# Altium footprint library SYSPCB_03.PCBLIB: 98 footprints (part 6 of 7)
Each footprint in its own frame and in the unit in brackets; x right, y up, seen from the top. Pads: shape width x height; smd on the part's side, far side on the other; paste and mask are expansions set on the pad; w line width, h text height; cw(c..) or ccw(c..) is an arc to the next point about the centre after c.
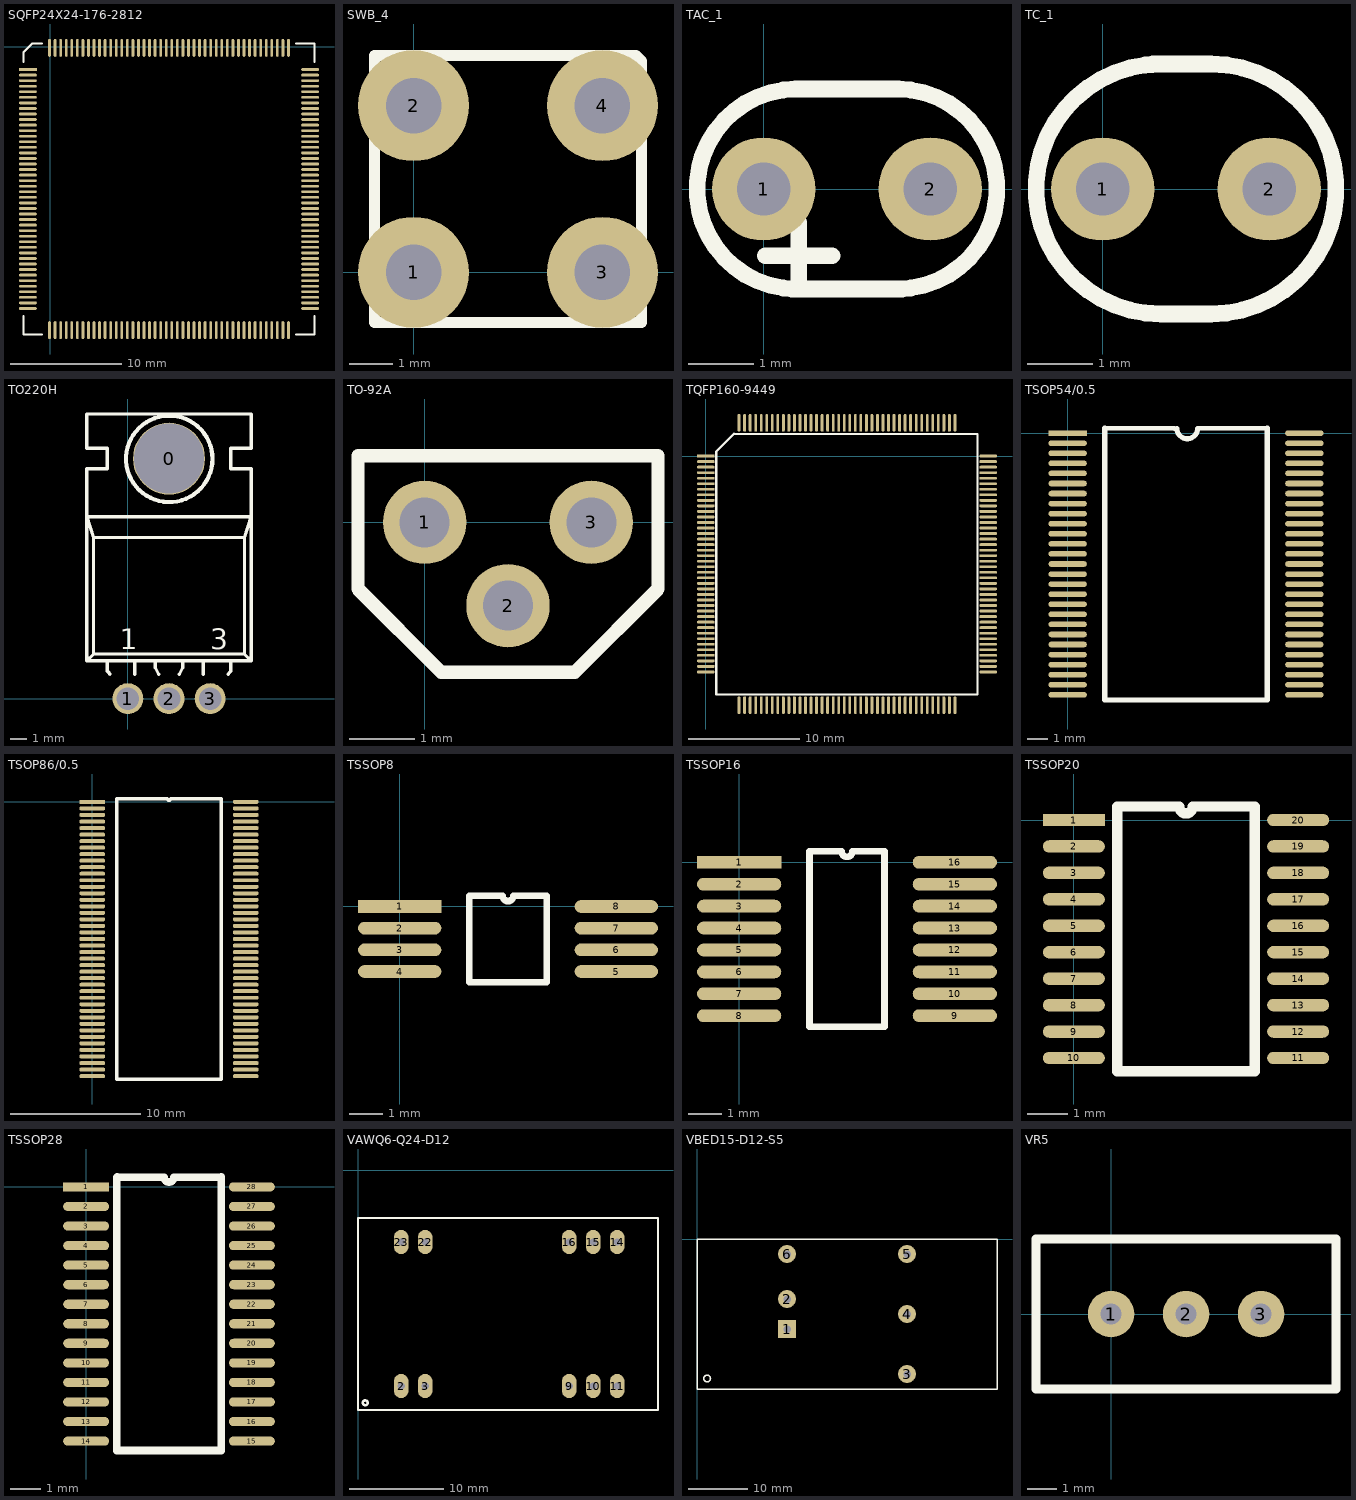
[diagram p5: the footprints below, top view; thin cyan lines are the x and y axes]

## SQFP24X24-176-2812 [mil]
pads (176):
  rect 62.99x10 smd: 1(-80,-80)
  oval 62.99x10 smd: 2(-80,-99.69) 3(-80,-119.37) 4(-80,-139.06) 5(-80,-158.74) 6(-80,-178.43) 7(-80,-198.11) 8(-80,-217.79) 9(-80,-237.48) 10(-80,-257.17) 11(-80,-276.85) 12(-80,-296.54) 13(-80,-316.22) 14(-80,-335.9) 15(-80,-355.59) 16(-80,-375.27) 17(-80,-394.96) 18(-80,-414.64) 19(-80,-434.33) 20(-80,-454.01) 21(-80,-473.7) 22(-80,-493.38) 23(-80,-513.07) 24(-80,-532.75) 25(-80,-552.44) 26(-80,-572.12) 27(-80,-591.81) 28(-80,-611.5) 29(-80,-631.18) 30(-80,-650.87) 31(-80,-670.55) 32(-80,-690.24) 33(-80,-709.92) 34(-80,-729.61) 35(-80,-749.29) 36(-80,-768.98) 37(-80,-788.66) 38(-80,-808.35) 39(-80,-828.03) 40(-80,-847.72) 41(-80,-867.4) 42(-80,-887.09) 43(-80,-906.77) 44(-80,-926.46) 89(920,-926.46) 90(920,-906.77) 91(920,-887.09) 92(920,-867.4) 93(920,-847.72) 94(920,-828.03) 95(920,-808.35) 96(920,-788.66) 97(920,-768.98) 98(920,-749.29) 99(920,-729.61) 100(920,-709.92) 101(920,-690.24) 102(920,-670.55) 103(920,-650.87) 104(920,-631.18) 105(920,-611.5) 106(920,-591.81) 107(920,-572.12) 108(920,-552.44) 109(920,-532.75) 110(920,-513.07) 111(920,-493.38) 112(920,-473.7) 113(920,-454.01) 114(920,-434.33) 115(920,-414.64) 116(920,-394.96) 117(920,-375.27) 118(920,-355.59) 119(920,-335.9) 120(920,-316.22) 121(920,-296.54) 122(920,-276.85) 123(920,-257.17) 124(920,-237.48) 125(920,-217.79) 126(920,-198.11) 127(920,-178.43) 128(920,-158.74) 129(920,-139.06) 130(920,-119.37) 131(920,-99.69) 132(920,-80)
  oval 10x62.99 smd: 45(-3.23,-1003.23) 46(16.46,-1003.23) 47(36.14,-1003.23) 48(55.83,-1003.23) 49(75.51,-1003.23) 50(95.2,-1003.23) 51(114.88,-1003.23) 52(134.57,-1003.23) 53(154.25,-1003.23) 54(173.94,-1003.23) 55(193.62,-1003.23) 56(213.31,-1003.23) 57(232.99,-1003.23) 58(252.68,-1003.23) 59(272.36,-1003.23) 60(292.05,-1003.23) 61(311.73,-1003.23) 62(331.42,-1003.23) 63(351.1,-1003.23) 64(370.79,-1003.23) 65(390.47,-1003.23) 66(410.16,-1003.23) 67(429.84,-1003.23) 68(449.53,-1003.23) 69(469.21,-1003.23) 70(488.9,-1003.23) 71(508.58,-1003.23) 72(528.27,-1003.23) 73(547.95,-1003.23) 74(567.64,-1003.23) 75(587.32,-1003.23) 76(607.01,-1003.23) 77(626.69,-1003.23) 78(646.38,-1003.23) 79(666.06,-1003.23) 80(685.75,-1003.23) 81(705.43,-1003.23) 82(725.12,-1003.23) 83(744.8,-1003.23) 84(764.49,-1003.23) 85(784.17,-1003.23) 86(803.86,-1003.23) 87(823.54,-1003.23) 88(843.23,-1003.23) 133(843.23,-3.23) 134(823.54,-3.23) 135(803.86,-3.23) 136(784.17,-3.23) 137(764.49,-3.23) 138(744.8,-3.23) 139(725.12,-3.23) 140(705.43,-3.23) 141(685.75,-3.23) 142(666.06,-3.23) 143(646.38,-3.23) 144(626.69,-3.23) 145(607.01,-3.23) 146(587.32,-3.23) 147(567.64,-3.23) 148(547.95,-3.23) 149(528.27,-3.23) 150(508.58,-3.23) 151(488.9,-3.23) 152(469.21,-3.23) 153(449.53,-3.23) 154(429.84,-3.23) 155(410.16,-3.23) 156(390.47,-3.23) 157(370.79,-3.23) 158(351.1,-3.23) 159(331.42,-3.23) 160(311.73,-3.23) 161(292.05,-3.23) 162(272.36,-3.23) 163(252.68,-3.23) 164(232.99,-3.23) 165(213.31,-3.23) 166(193.62,-3.23) 167(173.94,-3.23) 168(154.25,-3.23) 169(134.57,-3.23) 170(114.88,-3.23) 171(95.2,-3.23) 172(75.51,-3.23) 173(55.83,-3.23) 174(36.14,-3.23) 175(16.46,-3.23) 176(-3.23,-3.23)
TopOverlay:
  lines w7.87: -95.75,-954.01 -95.75,-1018.98 -30.79,-1018.98 ; -95.75,-52.44 -95.75,-18.98 -64.25,12.52 -30.79,12.52 ; 870.79,-1018.98 935.75,-1018.98 935.75,-954.01 ; 870.79,12.52 935.75,12.52 935.75,-52.44

## SWB_4 [mil]
pads (4):
  round 100 hole 50: 1(0,0) 2(0,150) 3(170,0) 4(170,150)
TopOverlay:
  lines w10: -35,-45 -35,195 200,195 205,190 205,-45 0,-45 -35,-45

## TAC_1 [mil]
pads (2):
  round 62 hole 32: 1(0,0) 2(100,0)
TopOverlay:
  lines w10: 1,-40 41,-40 ; 17,-60 83,-60 ; 19,60 81,60 ; 20,-60 cw(c20,0) 20,60 ; 21,-60 21,-20 ; 80,-60 ccw(c80,0) 80,60

## TC_1 [mil]
pads (2):
  round 62 hole 32: 1(0,0) 2(100,0)
TopOverlay:
  lines w10: 30,75 63,75 ; 35,-75 cw(c35,0) 35,75 ; 36,-75 64,-75 ; 65,-75 ccw(c65,0) 65,75

## TO220H [mil]
pads (4):
  round 175 hole 170: 0(100,583.33)
  round 75 hole 55: 1(0,0) 2(100,0) 3(200,0)
TopOverlay:
  circle w10: c100.67,582.53 r105
  lines w7.87: -50,66.67 -50,91.67 ; -48.11,65.41 -43.58,59.05 ; 16.67,59.05 16.67,91.67 ; 66.67,91.67 66.67,75 75,59.05 ; 125,59.05 133.33,75 133.33,91.67 ; 183.33,59.05 183.33,91.67 ; 243.9,59.05 250.31,67.61 ; 250,66.67 250,91.67 ; -100,91.67 -83.33,108.33 ; -100,91.67 300,91.67 ; -100,91.67 -100,558.33 -50,558.33 -50,608.33 -100,608.33 -100,691.67 300,691.67 300,608.33 250,608.33 250,558.33 300,558.33 300,91.67 ; -83.33,108.33 283.33,108.33 ; -83.33,108.33 -83.33,391.67 ; -83.33,391.67 283.33,391.67 ; -83.33,391.67 -100,441.67 300,441.67 283.33,391.67 ; 283.33,108.33 300,91.67 ; 283.33,108.33 283.33,391.67
  text "1" at -20,120 h50
  text "3" at 200,120 h50

## TO-92A [mil]
pads (3):
  round 50 hole 30: 1(0,0) 2(50,-50) 3(100,0)
TopOverlay:
  lines w8: -40,-40 -40,40 140,40 140,-40 90,-90 10,-90 -40,-40

## TQFP160-9449 [mm]
pads (160):
  rect 1.6x0.254 smd: 1(0,0)
  oval 1.6x0.254 smd: 2(0,-0.5) 3(0,-1) 4(0,-1.5) 5(0,-2) 6(0,-2.5) 7(0,-3) 8(0,-3.5) 9(0,-4) 10(0,-4.5) 11(0,-5) 12(0,-5.5) 13(0,-6) 14(0,-6.5) 15(0,-7) 16(0,-7.5) 17(0,-8) 18(0,-8.5) 19(0,-9) 20(0,-9.5) 21(0,-10) 22(0,-10.5) 23(0,-11) 24(0,-11.5) 25(0,-12) 26(0,-12.5) 27(0,-13) 28(0,-13.5) 29(0,-14) 30(0,-14.5) 31(0,-15) 32(0,-15.5) 33(0,-16) 34(0,-16.5) 35(0,-17) 36(0,-17.5) 37(0,-18) 38(0,-18.5) 39(0,-19) 40(0,-19.5) 81(25.5,-19.5) 82(25.5,-19) 83(25.5,-18.5) 84(25.5,-18) 85(25.5,-17.5) 86(25.5,-17) 87(25.5,-16.5) 88(25.5,-16) 89(25.5,-15.5) 90(25.5,-15) 91(25.5,-14.5) 92(25.5,-14) 93(25.5,-13.5) 94(25.5,-13) 95(25.5,-12.5) 96(25.5,-12) 97(25.5,-11.5) 98(25.5,-11) 99(25.5,-10.5) 100(25.5,-10) 101(25.5,-9.5) 102(25.5,-9) 103(25.5,-8.5) 104(25.5,-8) 105(25.5,-7.5) 106(25.5,-7) 107(25.5,-6.5) 108(25.5,-6) 109(25.5,-5.5) 110(25.5,-5) 111(25.5,-4.5) 112(25.5,-4) 113(25.5,-3.5) 114(25.5,-3) 115(25.5,-2.5) 116(25.5,-2) 117(25.5,-1.5) 118(25.5,-1) 119(25.5,-0.5) 120(25.5,0)
  oval 0.254x1.6 smd: 41(3,-22.5) 42(3.5,-22.5) 43(4,-22.5) 44(4.5,-22.5) 45(5,-22.5) 46(5.5,-22.5) 47(6,-22.5) 48(6.5,-22.5) 49(7,-22.5) 50(7.5,-22.5) 51(8,-22.5) 52(8.5,-22.5) 53(9,-22.5) 54(9.5,-22.5) 55(10,-22.5) 56(10.5,-22.5) 57(11,-22.5) 58(11.5,-22.5) 59(12,-22.5) 60(12.5,-22.5) 61(13,-22.5) 62(13.5,-22.5) 63(14,-22.5) 64(14.5,-22.5) 65(15,-22.5) 66(15.5,-22.5) 67(16,-22.5) 68(16.5,-22.5) 69(17,-22.5) 70(17.5,-22.5) 71(18,-22.5) 72(18.5,-22.5) 73(19,-22.5) 74(19.5,-22.5) 75(20,-22.5) 76(20.5,-22.5) 77(21,-22.5) 78(21.5,-22.5) 79(22,-22.5) 80(22.5,-22.5) 121(22.5,3) 122(22,3) 123(21.5,3) 124(21,3) 125(20.5,3) 126(20,3) 127(19.5,3) 128(19,3) 129(18.5,3) 130(18,3) 131(17.5,3) 132(17,3) 133(16.5,3) 134(16,3) 135(15.5,3) 136(15,3) 137(14.5,3) 138(14,3) 139(13.5,3) 140(13,3) 141(12.5,3) 142(12,3) 143(11.5,3) 144(11,3) 145(10.5,3) 146(10,3) 147(9.5,3) 148(9,3) 149(8.5,3) 150(8,3) 151(7.5,3) 152(7,3) 153(6.5,3) 154(6,3) 155(5.5,3) 156(5,3) 157(4.5,3) 158(4,3) 159(3.5,3) 160(3,3)
TopOverlay:
  lines w0.2: 0.94,-21.539 24.536,-21.514 24.536,1.981 2.54,2.007 0.94,0.413 0.94,-21.539

## TSOP54/0.5 [mil]
pads (54):
  rect 75x11 smd: 1(0,0)
  oval 75x11 smd: 2(0,-19.68) 3(0,-39.37) 4(0,-59.05) 5(0,-78.74) 6(0,-98.42) 7(0,-118.11) 8(0,-137.79) 9(0,-157.48) 10(0,-177.16) 11(0,-196.85) 12(0,-216.53) 13(0,-236.22) 14(0,-255.91) 15(0,-275.59) 16(0,-295.27) 17(0,-314.96) 18(0,-334.64) 19(0,-354.33) 20(0,-374.01) 21(0,-393.7) 22(0,-413.38) 23(0,-433.07) 24(0,-452.75) 25(0,-472.44) 26(0,-492.12) 27(0,-511.81) 28(463,-511.81) 29(463,-492.12) 30(463,-472.44) 31(463,-452.75) 32(463,-433.07) 33(463,-413.38) 34(463,-393.7) 35(463,-374.01) 36(463,-354.33) 37(463,-334.64) 38(463,-314.96) 39(463,-295.27) 40(463,-275.59) 41(463,-255.91) 42(463,-236.22) 43(463,-216.53) 44(463,-196.85) 45(463,-177.16) 46(463,-157.48) 47(463,-137.79) 48(463,-118.11) 49(463,-98.42) 50(463,-78.74) 51(463,-59.05) 52(463,-39.37) 53(463,-19.68) 54(463,0)
TopOverlay:
  lines w10: 209,9 72.5,9.84 72.5,-521.65 390.5,-521.65 390.5,9.84 255,9 ; 214,9 ccw(c234,9) 254,9

## TSOP86/0.5 [mil]
pads (86):
  rect 78x12 smd: 1(0,0)
  oval 78x12 smd: 2(0,-19.68) 3(0,-39.37) 4(0,-59.05) 5(0,-78.74) 6(0,-98.42) 7(0,-118.11) 8(0,-137.79) 9(0,-157.48) 10(0,-177.16) 11(0,-196.85) 12(0,-216.53) 13(0,-236.22) 14(0,-255.91) 15(0,-275.59) 16(0,-295.27) 17(0,-314.96) 18(0,-334.64) 19(0,-354.33) 20(0,-374.01) 21(0,-393.7) 22(0,-413.38) 23(0,-433.07) 24(0,-452.75) 25(0,-472.44) 26(0,-492.12) 27(0,-511.81) 28(0,-531.5) 29(0,-551.18) 30(0,-570.87) 31(0,-590.55) 32(0,-610.24) 33(0,-629.92) 34(0,-649.61) 35(0,-669.29) 36(0,-688.98) 37(0,-708.66) 38(0,-728.35) 39(0,-748.03) 40(0,-767.72) 41(0,-787.4) 42(0,-807.09) 43(0,-826.77) 44(463,-826.77) 45(463,-807.09) 46(463,-787.4) 47(463,-767.72) 48(463,-748.03) 49(463,-728.35) 50(463,-708.66) 51(463,-688.98) 52(463,-669.29) 53(463,-649.61) 54(463,-629.92) 55(463,-610.24) 56(463,-590.55) 57(463,-570.87) 58(463,-551.18) 59(463,-531.5) 60(463,-511.81) 61(463,-492.12) 62(463,-472.44) 63(463,-452.75) 64(463,-433.07) 65(463,-413.38) 66(463,-393.7) 67(463,-374.01) 68(463,-354.33) 69(463,-334.64) 70(463,-314.96) 71(463,-295.27) 72(463,-275.59) 73(463,-255.91) 74(463,-236.22) 75(463,-216.53) 76(463,-196.85) 77(463,-177.16) 78(463,-157.48) 79(463,-137.79) 80(463,-118.11) 81(463,-98.42) 82(463,-78.74) 83(463,-59.05) 84(463,-39.37) 85(463,-19.68) 86(463,0)
TopOverlay:
  lines w10: 74,-836.61 74,9.84 226.58,9.84 ccw(c231.5,9.84) 236.42,9.84 389,9.84 389,-836.61 74,-836.61

## TSSOP8 [mm]
pads (8):
  rect 2.5x0.38 smd: 1(0,0)
  oval 2.5x0.38 smd: 2(0,-0.65) 3(0,-1.3) 4(0,-1.95) 5(6.5,-1.95) 6(6.5,-1.3) 7(6.5,-0.65) 8(6.5,0)
TopOverlay:
  lines w0.2: 2.085,-2.275 4.415,-2.275 4.415,0.325 3.412,0.325 cw(c3.25,0.325) 3.087,0.325 2.085,0.325 2.085,-2.275

## TSSOP16 [mm]
pads (16):
  rect 2.5x0.38 smd: 1(0,0)
  oval 2.5x0.38 smd: 2(0,-0.65) 3(0,-1.3) 4(0,-1.95) 5(0,-2.6) 6(0,-3.25) 7(0,-3.9) 8(0,-4.55) 9(6.4,-4.55) 10(6.4,-3.9) 11(6.4,-3.25) 12(6.4,-2.6) 13(6.4,-1.95) 14(6.4,-1.3) 15(6.4,-0.65) 16(6.4,0)
TopOverlay:
  lines w0.2: 2.085,-4.875 2.085,0.325 3.037,0.325 ccw(c3.2,0.325) 3.362,0.325 4.315,0.325 4.315,-4.875 2.085,-4.875

## TSSOP20 [mil]
pads (20):
  rect 60x12 smd: 1(0,0)
  oval 60x12 smd: 2(0,-25.59) 3(0,-51.18) 4(0,-76.77) 5(0,-102.36) 6(0,-127.95) 7(0,-153.54) 8(0,-179.13) 9(0,-204.72) 10(0,-230.31) 11(217,-230.31) 12(217,-204.72) 13(217,-179.13) 14(217,-153.54) 15(217,-127.95) 16(217,-102.36) 17(217,-76.77) 18(217,-51.18) 19(217,-25.59) 20(217,0)
TopOverlay:
  lines w10: 42,12.9 42,-243 175,-243 175,12.9 ; 43,13 102.1,12.79 ccw(c108.5,12.79) 114.9,12.79 175,13

## TSSOP28 [mil]
pads (28):
  rect 60x12 smd: 1(0,0)
  oval 60x12 smd: 2(0,-25.59) 3(0,-51.18) 4(0,-76.77) 5(0,-102.36) 6(0,-127.95) 7(0,-153.54) 8(0,-179.13) 9(0,-204.72) 10(0,-230.31) 11(0,-255.9) 12(0,-281.49) 13(0,-307.08) 14(0,-332.67) 15(217,-332.67) 16(217,-307.08) 17(217,-281.49) 18(217,-255.9) 19(217,-230.31) 20(217,-204.72) 21(217,-179.13) 22(217,-153.54) 23(217,-127.95) 24(217,-102.36) 25(217,-76.77) 26(217,-51.18) 27(217,-25.59) 28(217,0)
TopOverlay:
  lines w10: 40,12.26 40,-345 177,-345 ; 41,13 102.1,12.79 ccw(c108.5,12.79) 114.9,12.79 177,13 177,-344

## VAWQ6-Q24-D12 [mil]
pads (10):
  oval 62x100 hole 30: 2(180,-900) 3(280,-900) 9(880,-900) 10(980,-900) 11(1080,-900) 14(1080,-300) 15(980,-300) 16(880,-300) 22(280,-300) 23(180,-300)
TopOverlay:
  circle w10: c30,-970 r10
  lines w10: 0,-1000 0,-200 10,-200 1250,-200 1250,-1000 0,-1000

## VBED15-D12-S5 [mil]
pads (6):
  rect 120x120 hole 50: 1(600,-600)
  round 120 hole 50: 2(600,-400) 3(1400,-900) 4(1400,-500) 5(1400,-100) 6(600,-100)
TopOverlay:
  circle w10: c67.64,-930 r22.36
  lines w10: 0,-1000 2000,-1000 2000,0 0,0 0,-1000

## VR5 [mil]
pads (3):
  round 62 hole 28: 1(0,0) 2(100,0) 3(200,0)
TopOverlay:
  lines w12: 300,0 300,100 -100,100 -100,-100 300,-100 300,11
3D body: height 394.88, standoff 5, extent -95,-95 295,95
3D body: height 434.25, standoff 394.88, extent 227.7,-89.95 277.5,-40.05